# Altium schematic symbol library SCH - MCU - NUVOTON - NUVOTON NUC029LEE.SchLib: 1 symbol
Pins are listed as number, name and electrical type; pins without a type are passive.

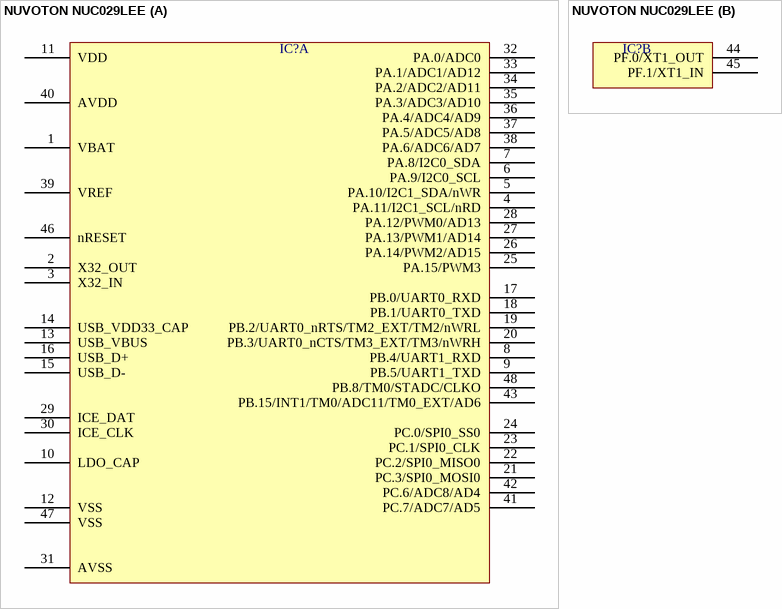
[diagram p0: symbol NUVOTON NUC029LEE]

## NUVOTON NUC029LEE
designator IC?  (value not drawn)
part A pins: 1 VBAT, 2 X32_OUT, 3 X32_IN, 4 PA.11/I2C1_SCL/nRD, 5 PA.10/I2C1_SDA/nWR, 6 PA.9/I2C0_SCL, 7 PA.8/I2C0_SDA, 8 PB.4/UART1_RXD, 9 PB.5/UART1_TXD, 10 LDO_CAP, 11 VDD, 12 VSS, 13 USB_VBUS, 14 USB_VDD33_CAP, 15 USB_D-, 16 USB_D+, 17 PB.0/UART0_RXD, 18 PB.1/UART0_TXD, 19 PB.2/UART0_nRTS/TM2_EXT/TM2/nWRL, 20 PB.3/UART0_nCTS/TM3_EXT/TM3/nWRH, 21 PC.3/SPI0_MOSI0, 22 PC.2/SPI0_MISO0, 23 PC.1/SPI0_CLK, 24 PC.0/SPI0_SS0, 25 PA.15/PWM3, 26 PA.14/PWM2/AD15, 27 PA.13/PWM1/AD14, 28 PA.12/PWM0/AD13, 29 ICE_DAT, 30 ICE_CLK, 31 AVSS, 32 PA.0/ADC0, 33 PA.1/ADC1/AD12, 34 PA.2/ADC2/AD11, 35 PA.3/ADC3/AD10, 36 PA.4/ADC4/AD9, 37 PA.5/ADC5/AD8, 38 PA.6/ADC6/AD7, 39 VREF, 40 AVDD, 41 PC.7/ADC7/AD5, 42 PC.6/ADC8/AD4, 43 PB.15/INT1/TM0/ADC11/TM0_EXT/AD6, 46 nRESET, 47 VSS, 48 PB.8/TM0/STADC/CLKO
part B pins: 44 PF.0/XT1_OUT, 45 PF.1/XT1_IN